# Altium footprint library PcbLib1.PcbLib: 13 footprints
Each footprint in its own frame and in the unit in brackets; x right, y up, seen from the top. Pads: shape width x height; smd on the part's side, far side on the other; paste and mask are expansions set on the pad; w line width, h text height; cw(c..) or ccw(c..) is an arc to the next point about the centre after c.
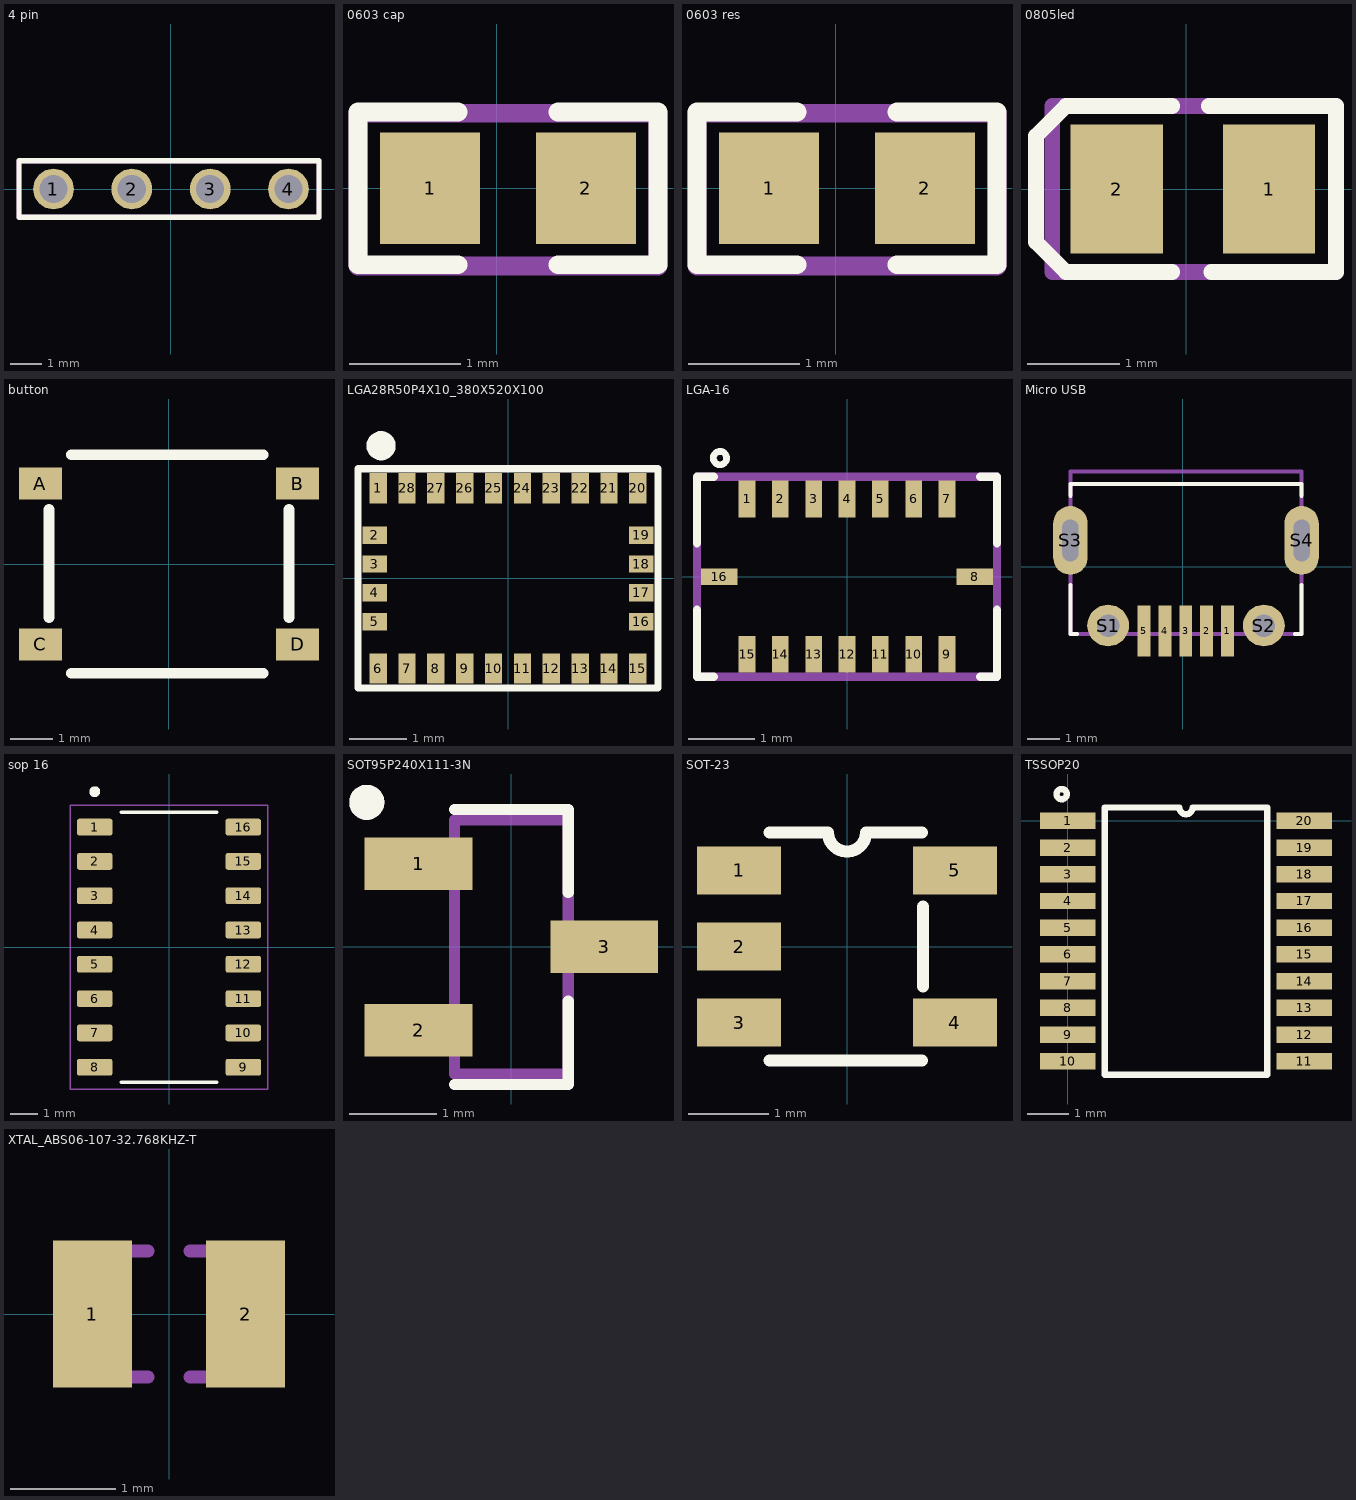
[diagram p0: the footprints below, top view; thin cyan lines are the x and y axes]

## 4 pin [mm]
pads (4):
  round 1.3 hole 0.9: 1(-3.75,0) 2(-1.25,0) 3(1.25,0) 4(3.75,0)
Top Overlay:
  lines w0.17: -4.85,-0.9 4.725,-0.9 4.725,0.9 -4.85,0.9 -4.85,-0.9
Mechanical 29:
  lines w0.17: -4.85,-0.9 4.725,-0.9 4.725,0.9 -4.85,0.9 -4.85,-0.9
  text ".Designator" at -5.421,1.837 h1

## 0603 cap [mm]
pads (2):
  rect 0.9x1 smd: 1(-0.6,0) 2(0.8,0)
Top Overlay:
  lines w0.17: -0.35,-0.688 -1.25,-0.688 -1.25,0.687 -0.35,0.687 ; 0.55,-0.688 1.45,-0.688 1.45,0.687 0.55,0.687
Mechanical 29:
  lines w0.17: -1.25,-0.7 1.45,-0.7 1.45,0.675 -1.25,0.675 -1.25,-0.7
  text ".Designator" at -4.346,-2.163 h1
3D body "User Library-SMD CAPACITOR.step": height 0.8, standoff 0, extent -0.7,-0.4 0.9,0.4

## 0603 res [mm]
pads (2):
  rect 0.9x1 smd: 1(-0.6,0) 2(0.8,0)
Top Overlay:
  lines w0.17: -0.35,-0.688 -1.25,-0.688 -1.25,0.687 -0.35,0.687 ; 0.55,-0.688 1.45,-0.688 1.45,0.687 0.55,0.687
Mechanical 29:
  lines w0.17: -1.25,-0.7 1.45,-0.7 1.45,0.675 -1.25,0.675 -1.25,-0.7
  text ".Designator" at -4.346,-2.163 h1
3D body "User Library-RES_1609-0603.step": height 0.56, standoff 0, extent -0.725,-0.375 0.975,0.425

## 0805led [mm]
pads (2):
  rect 1x1.4 smd: 1(0.9,0) 2(-0.75,0)
Top Overlay:
  lines w0.17: -0.15,-0.9 -1.3,-0.9 -1.625,-0.575 -1.625,0.575 -1.3,0.9 -0.15,0.9 ; 0.25,0.9 1.625,0.9 1.625,-0.9 0.275,-0.9
Mechanical 29:
  lines w0.17: -1.45,-0.9 -1.45,0.9 1.625,0.9 1.625,-0.9 -1.45,-0.9
  text ".Designator" at -4.371,-2.213 h1
3D body "User Library-LED SMD0805.STEP": height 0.85, standoff 0.01, extent -0.931,-0.531 1.131,0.375

## button [mm]
pads (4):
  rect 1x0.75 smd: A(-3,1.875) B(3,1.875) C(-3,-1.875) D(3,-1.875)
Top Overlay:
  lines w0.254: -2.8,-1.25 -2.8,1.275 ; -2.275,-2.55 2.2,-2.55 ; -2.275,2.55 2.2,2.55 ; 2.8,-1.25 2.8,1.275
Mechanical 29:
  text ".Designator" at -4.846,3.262 h1
3D body "User Library-LP16.step": height 1.5, standoff 0, extent -3.25,-2.55 3.15,2.55

## LGA28R50P4X10_380X520X100 [mm]
pads (28):
  rect 0.3x0.525 smd mask+0.05: 1(-2.25,1.562) 6(-2.25,-1.562) 7(-1.75,-1.562) 8(-1.25,-1.562) 9(-0.75,-1.562) 10(-0.25,-1.562) 11(0.25,-1.562) 12(0.75,-1.562) 13(1.25,-1.562) 14(1.75,-1.562) 15(2.25,-1.562) 20(2.25,1.562) 21(1.75,1.562) 22(1.25,1.562) 23(0.75,1.562) 24(0.25,1.562) 25(-0.25,1.562) 26(-0.75,1.562) 27(-1.25,1.562) 28(-1.75,1.562)
  rect 0.425x0.3 smd mask+0.05: 2(-2.312,0.75) 3(-2.312,0.25) 4(-2.312,-0.25) 5(-2.312,-0.75) 16(2.312,-0.75) 17(2.312,-0.25) 18(2.312,0.25) 19(2.312,0.75)
Top Overlay:
  circle w0.305: c-2.2,2.3 r0.1
  lines w0.127: -2.6,-1.9 -2.6,1.9 2.6,1.9 2.6,-1.9 -2.6,-1.9
Mechanical 29:
  text ".Designator" at -4.675,-0.317 h1
3D body "User Library-LGA-28_5_2x3_8_0_5p-1.step": height 1.18, standoff 0, extent -2.6,-1.925 2.6,1.875

## LGA-16 [mm]
pads (16):
  rect 0.25x0.55 smd mask+0.07: 1(-1.5,1.165) 2(-1,1.165) 3(-0.5,1.165) 4(0,1.165) 5(0.5,1.165) 6(1,1.165) 7(1.5,1.165) 9(1.5,-1.165) 10(1,-1.165) 11(0.5,-1.165) 12(0,-1.165) 13(-0.5,-1.165) 14(-1,-1.165) 15(-1.5,-1.165)
  rect 0.55x0.25 smd mask+0.07: 8(1.915,0) 16(-1.915,0)
Top Overlay:
  circle w0.1: c-1.905,1.778 r0.1
  lines w0.127: -2.25,-0.5 -2.25,-1.5 -2,-1.5 ; -2.25,0.5 -2.25,1.5 -2,1.5 ; 2,-1.5 2.25,-1.5 2.25,-0.5 ; 2,1.5 2.25,1.5 2.25,0.5
Mechanical 29:
  lines w0.127: -2.25,-1.5 -2.25,1.5 2.25,1.5 2.25,-1.5 -2.25,-1.5
  text ".Designator" at -3.456,-0.175 h0.7

## Micro USB [mm]
pads (9):
  rect 0.4x1.6 smd: 1(1.4,-2) 2(0.75,-2) 3(0.1,-2) 4(-0.55,-2) 5(-1.2,-2)
  round 1.3 hole 0.7: S1(-2.317,-1.831) S2(2.533,-1.831)
  oval 1.07x2.14 hole 0.5 slot 1.3 at 90 deg: S3(-3.492,0.819) S4(3.708,0.819)
Top Overlay:
  lines w0.127: -3.492,-0.571 -3.492,-2.091 -3.287,-2.091 ; -3.492,2.209 -3.492,2.569 3.708,2.569 3.708,2.209 ; 3.503,-2.091 3.708,-2.091 3.708,-0.571
Mechanical 29:
  lines w0.127: -3.492,-2.091 3.708,-2.091 3.708,2.969 -3.492,2.969 -3.492,-2.091
  text ".Designator" at -7.746,-0.013 h1.52
3D body "User Library-MicroUSB-B_Molex_105017-0001.step": height 2.68, standoff -0.63, extent -4,-1.975 4.2,3.455

## sop 16 [mm]
height 1.8
pads (16):
  rrect25% 1.31x0.62 smd: 1(-2.75,4.445) 2(-2.75,3.175) 3(-2.75,1.905) 4(-2.75,0.635) 5(-2.75,-0.635) 6(-2.75,-1.905) 7(-2.75,-3.175) 8(-2.75,-4.445) 9(2.75,-4.445) 10(2.75,-3.175) 11(2.75,-1.905) 12(2.75,-0.635) 13(2.75,0.635) 14(2.75,1.905) 15(2.75,3.175) 16(2.75,4.445)
Top Overlay:
  circle w0.2: c-2.75,5.755 r0.1
  lines w0.127: -1.775,-5 1.775,-5 -1.775,-5 ; -1.775,5 1.775,5 -1.775,5
Mechanical 29:
  lines w0.05: -3.655,-5.25 3.655,-5.25 3.655,5.25 -3.655,5.25 -3.655,-5.25
  text ".Designator" at -4.371,-6.663 h1
3D body "step_temp.STEP": height 1.8, standoff 0, extent -3,-5 3,5

## SOT95P240X111-3N [mm]
pads (3):
  rect 1.23x0.6 smd: 1(-1.06,0.95) 2(-1.06,-0.95) 3(1.06,0)
Top Overlay:
  circle w0.2: c-1.651,1.651 r0.1
  lines w0.127: -0.65,-1.57 0.65,-1.57 0.65,-0.62 ; -0.65,1.57 0.65,1.57 0.65,0.62
Mechanical 29:
  circle w0.2: c-1.651,1.651 r0.1
  lines w0.127: -0.65,-1.45 0.65,-1.45 0.65,1.45 -0.65,1.45 -0.65,-1.45
  text ".Designator" at -5.05,-0.167 h1
3D body "step_temp.STEP": height 1.2, standoff 0, extent -1.325,-1.46 1.075,1.46

## SOT-23 [mm]
pads (5):
  rect 1.05x0.6 smd mask+0.07: 1(-1.35,0.95) 2(-1.35,0) 3(-1.35,-0.95) 4(1.35,-0.95) 5(1.35,0.95)
Top Overlay:
  lines w0.153: -0.969,-1.425 0.936,-1.425 ; -0.969,1.425 -0.238,1.425 ccw(c0,1.425) 0.238,1.425 0.936,1.425 ; 0.95,-0.5 0.95,0.5
Mechanical 29:
  text ".Designator" at -4.8,-0.167 h1
3D body "LP2985-33DBVR.step": height 1.45, standoff 0, extent -1.4,-1.45 1.4,1.45

## TSSOP20 [mm]
pads (20):
  rect 1.35x0.4 smd mask+0.09: 1(0,0) 2(0,-0.65) 3(0,-1.3) 4(0,-1.95) 5(0,-2.6) 6(0,-3.25) 7(0,-3.9) 8(0,-4.55) 9(0,-5.2) 10(0,-5.85) 11(5.75,-5.85) 12(5.75,-5.2) 13(5.75,-4.55) 14(5.75,-3.9) 15(5.75,-3.25) 16(5.75,-2.6) 17(5.75,-1.95) 18(5.75,-1.3) 19(5.75,-0.65) 20(5.75,0)
Top Overlay:
  circle w0.153: c-0.15,0.65 r0.125
  lines w0.153: 0.9,-6.175 0.9,0.325 2.713,0.325 ccw(c2.875,0.325) 3.037,0.325 4.85,0.325 4.85,-6.175 0.9,-6.175
Mechanical 29:
  text ".Designator" at -3.871,-3.438 h1.52
3D body "TSSOP20.step": height 1.2, standoff 0, extent -0.402,-6.227 6.202,0.377

## XTAL_ABS06-107-32.768KHZ-T [mm]
pads (2):
  rect 0.75x1.4 smd: 1(-0.73,0) 2(0.73,0)
Mechanical 29:
  lines w0.127: -0.2,-0.6 -1,-0.6 -1,0.6 -0.2,0.6 ; 0.2,-0.6 1,-0.6 1,0.6 0.2,0.6
  text ".Designator" at -3.371,0.512 h1.52
3D body "ABS06-32.768KHZ-9-1-T.step": height 0.61, standoff 0, extent -0.978,-0.575 1.028,0.619